# Altium schematic symbol library WE-RJ45.SchLib: 112 symbols
Pins are listed as number, name and electrical type; pins without a type are passive.

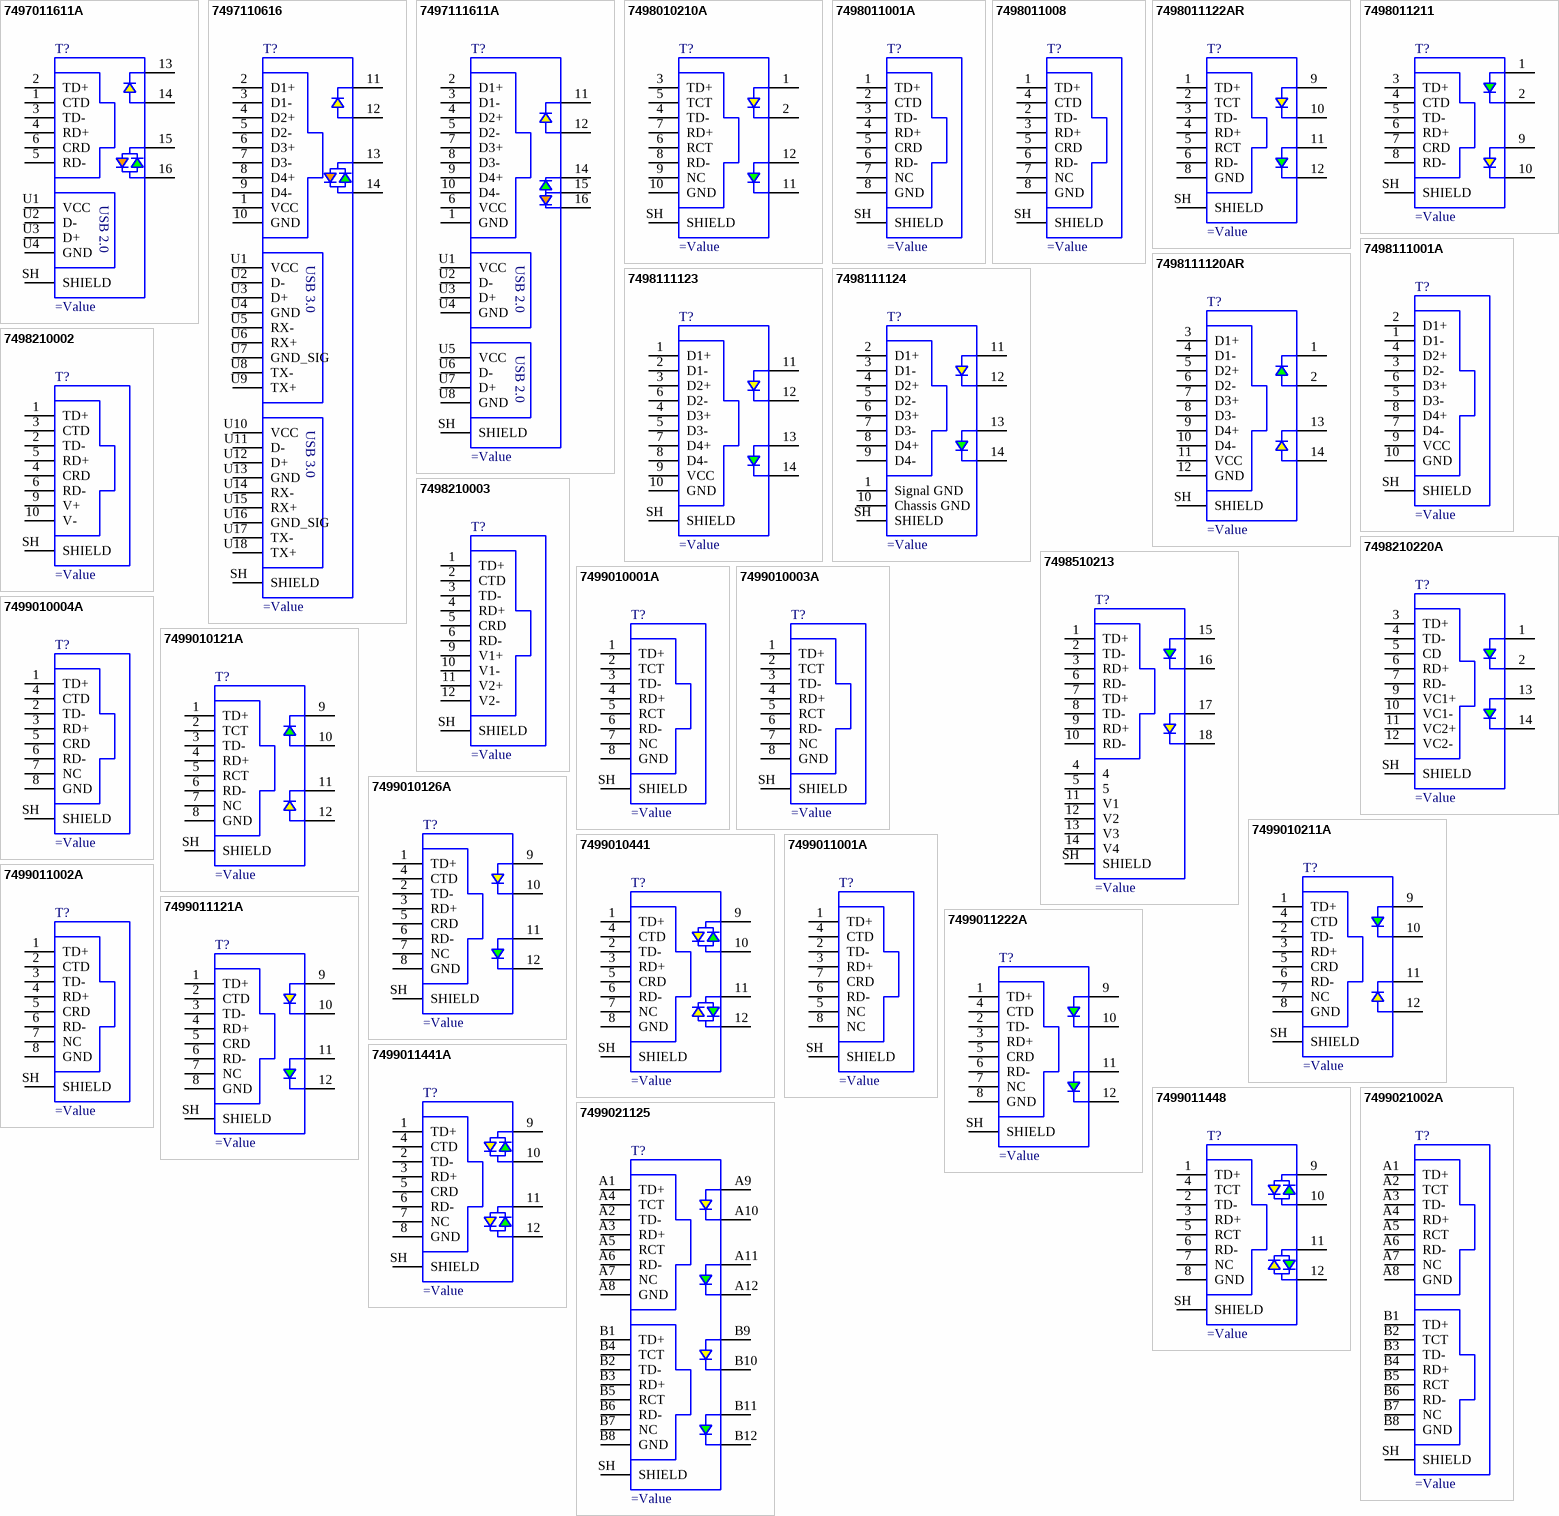
[diagram p0: symbols 7497011611A to 7499021125]

## 7497011611A
designator T?
pins: 1 CTD, 2 TD+, 3 TD-, 4 RD+, 5 RD-, 6 CRD, 13, 14, 15, 16, SH SHIELD, U1 VCC, U2 D-, U3 D+, U4 GND
text: USB 2.0

## 7497110616
designator T?
pins: 1 VCC, 2 D1+, 3 D1-, 4 D2+, 5 D2-, 6 D3+, 7 D3-, 8 D4+, 9 D4-, 10 GND, 11, 12, 13, 14, SH SHIELD, U1 VCC, U2 D-, U3 D+, U4 GND, U5 RX-, U6 RX+, U7 GND_SIG, U8 TX-, U9 TX+, U10 VCC, U11 D-, U12 D+, U13 GND, U14 RX-, U15 RX+, U16 GND_SIG, U17 TX-, U18 TX+
text: USB 3.0

## 7497111611A
designator T?
pins: 1 GND, 2 D1+, 3 D1-, 4 D2+, 5 D2-, 6 VCC, 7 D3+, 8 D3-, 9 D4+, 10 D4-, 11, 12, 14, 15, 16, SH SHIELD, U1 VCC, U2 D-, U3 D+, U4 GND, U5 VCC, U6 D-, U7 D+, U8 GND
text: USB 2.0

## 7498010210A
designator T?
pins: 1, 2, 3 TD+, 4 TD-, 5 TCT, 6 RCT, 7 RD+, 8 RD-, 9 NC, 10 GND, 11, 12, SH SHIELD

## 7498011001A
designator T?
pins: 1 TD+, 2 CTD, 3 TD-, 4 RD+, 5 CRD, 6 RD-, 7 NC, 8 GND, SH SHIELD

## 7498011008
designator T?
pins: 1 TD+, 2 TD-, 3 RD+, 4 CTD, 5 CRD, 6 RD-, 7 NC, 8 GND, SH SHIELD

## 7498011122AR
designator T?
pins: 1 TD+, 2 TCT, 3 TD-, 4 RD+, 5 RCT, 6 RD-, 8 GND, 9, 10, 11, 12, SH SHIELD

## 7498011211
designator T?
pins: 1, 2, 3 TD+, 4 CTD, 5 TD-, 6 RD+, 7 CRD, 8 RD-, 9, 10, SH SHIELD

## 7498111001A
designator T?
pins: 1 D1-, 2 D1+, 3 D2-, 4 D2+, 5 D3-, 6 D3+, 7 D4-, 8 D4+, 9 VCC, 10 GND, SH SHIELD

## 7498111120AR
designator T?
pins: 1, 2, 3 D1+, 4 D1-, 5 D2+, 6 D2-, 7 D3+, 8 D3-, 9 D4+, 10 D4-, 11 VCC, 12 GND, 13, 14, SH SHIELD

## 7498111123
designator T?
pins: 1 D1+, 2 D1-, 3 D2+, 4 D3+, 5 D3-, 6 D2-, 7 D4+, 8 D4-, 9 VCC, 10 GND, 11, 12, 13, 14, SH SHIELD

## 7498111124
designator T?
pins: 1 Signal GND, 2 D1+, 3 D1-, 4 D2+, 5 D2-, 6 D3+, 7 D3-, 8 D4+, 9 D4-, 10 Chassis GND, 11, 12, 13, 14, SH SHIELD

## 7498210002
designator T?
pins: 1 TD+, 2 TD-, 3 CTD, 4 CRD, 5 RD+, 6 RD-, 9 V+, 10 V-, SH SHIELD

## 7498210003
designator T?
pins: 1 TD+, 2 CTD, 3 TD-, 4 RD+, 5 CRD, 6 RD-, 9 V1+, 10 V1-, 11 V2+, 12 V2-, SH SHIELD

## 7498210220A
designator T?
pins: 1, 2, 3 TD+, 4 TD-, 5 CD, 6 RD+, 7 RD-, 9 VC1+, 10 VC1-, 11 VC2+, 12 VC2-, 13, 14, SH SHIELD

## 7498510213
designator T?
pins: 1 TD+, 2 TD-, 3 RD+, 4, 5, 6 RD-, 7 TD+, 8 TD-, 9 RD+, 10 RD-, 11 V1, 12 V2, 13 V3, 14 V4, 15, 16, 17, 18, SH SHIELD

## 7499010001A
designator T?
pins: 1 TD+, 2 TCT, 3 TD-, 4 RD+, 5 RCT, 6 RD-, 7 NC, 8 GND, SH SHIELD

## 7499010003A
designator T?
pins: 1 TD+, 2 TCT, 3 TD-, 4 RD+, 5 RCT, 6 RD-, 7 NC, 8 GND, SH SHIELD

## 7499010004A
designator T?
pins: 1 TD+, 2 TD-, 3 RD+, 4 CTD, 5 CRD, 6 RD-, 7 NC, 8 GND, SH SHIELD

## 7499010121A
designator T?
pins: 1 TD+, 2 TCT, 3 TD-, 4 RD+, 5 RCT, 6 RD-, 7 NC, 8 GND, 9, 10, 11, 12, SH SHIELD

## 7499010126A
designator T?
pins: 1 TD+, 2 TD-, 3 RD+, 4 CTD, 5 CRD, 6 RD-, 7 NC, 8 GND, 9, 10, 11, 12, SH SHIELD

## 7499010211A
designator T?
pins: 1 TD+, 2 TD-, 3 RD+, 4 CTD, 5 CRD, 6 RD-, 7 NC, 8 GND, 9, 10, 11, 12, SH SHIELD

## 7499010441
designator T?
pins: 1 TD+, 2 TD-, 3 RD+, 4 CTD, 5 CRD, 6 RD-, 7 NC, 8 GND, 9, 10, 11, 12, SH SHIELD

## 7499011001A
designator T?
pins: 1 TD+, 2 TD-, 3 RD+, 4 CTD, 5 NC, 6 RD-, 7 CRD, 8 NC, SH SHIELD

## 7499011002A
designator T?
pins: 1 TD+, 2 CTD, 3 TD-, 4 RD+, 5 CRD, 6 RD-, 7 NC, 8 GND, SH SHIELD

## 7499011121A
designator T?
pins: 1 TD+, 2 CTD, 3 TD-, 4 RD+, 5 CRD, 6 RD-, 7 NC, 8 GND, 9, 10, 11, 12, SH SHIELD

## 7499011222A
designator T?
pins: 1 TD+, 2 TD-, 3 RD+, 4 CTD, 5 CRD, 6 RD-, 7 NC, 8 GND, 9, 10, 11, 12, SH SHIELD

## 7499011441A
designator T?
pins: 1 TD+, 2 TD-, 3 RD+, 4 CTD, 5 CRD, 6 RD-, 7 NC, 8 GND, 9, 10, 11, 12, SH SHIELD

## 7499011448
designator T?
pins: 1 TD+, 2 TD-, 3 RD+, 4 TCT, 5 RCT, 6 RD-, 7 NC, 8 GND, 9, 10, 11, 12, SH SHIELD

## 7499021002A
designator T?
pins: A1 TD+, A2 TCT, A3 TD-, A4 RD+, A5 RCT, A6 RD-, A7 NC, A8 GND, B1 TD+, B2 TCT, B3 TD-, B4 RD+, B5 RCT, B6 RD-, B7 NC, B8 GND, SH SHIELD

## 7499021125
designator T?
pins: A1 TD+, A2 TD-, A3 RD+, A4 TCT, A5 RCT, A6 RD-, A7 NC, A8 GND, A9, A10, A11, A12, B1 TD+, B2 TD-, B3 RD+, B4 TCT, B5 RCT, B6 RD-, B7 NC, B8 GND, B9, B10, B11, B12, SH SHIELD

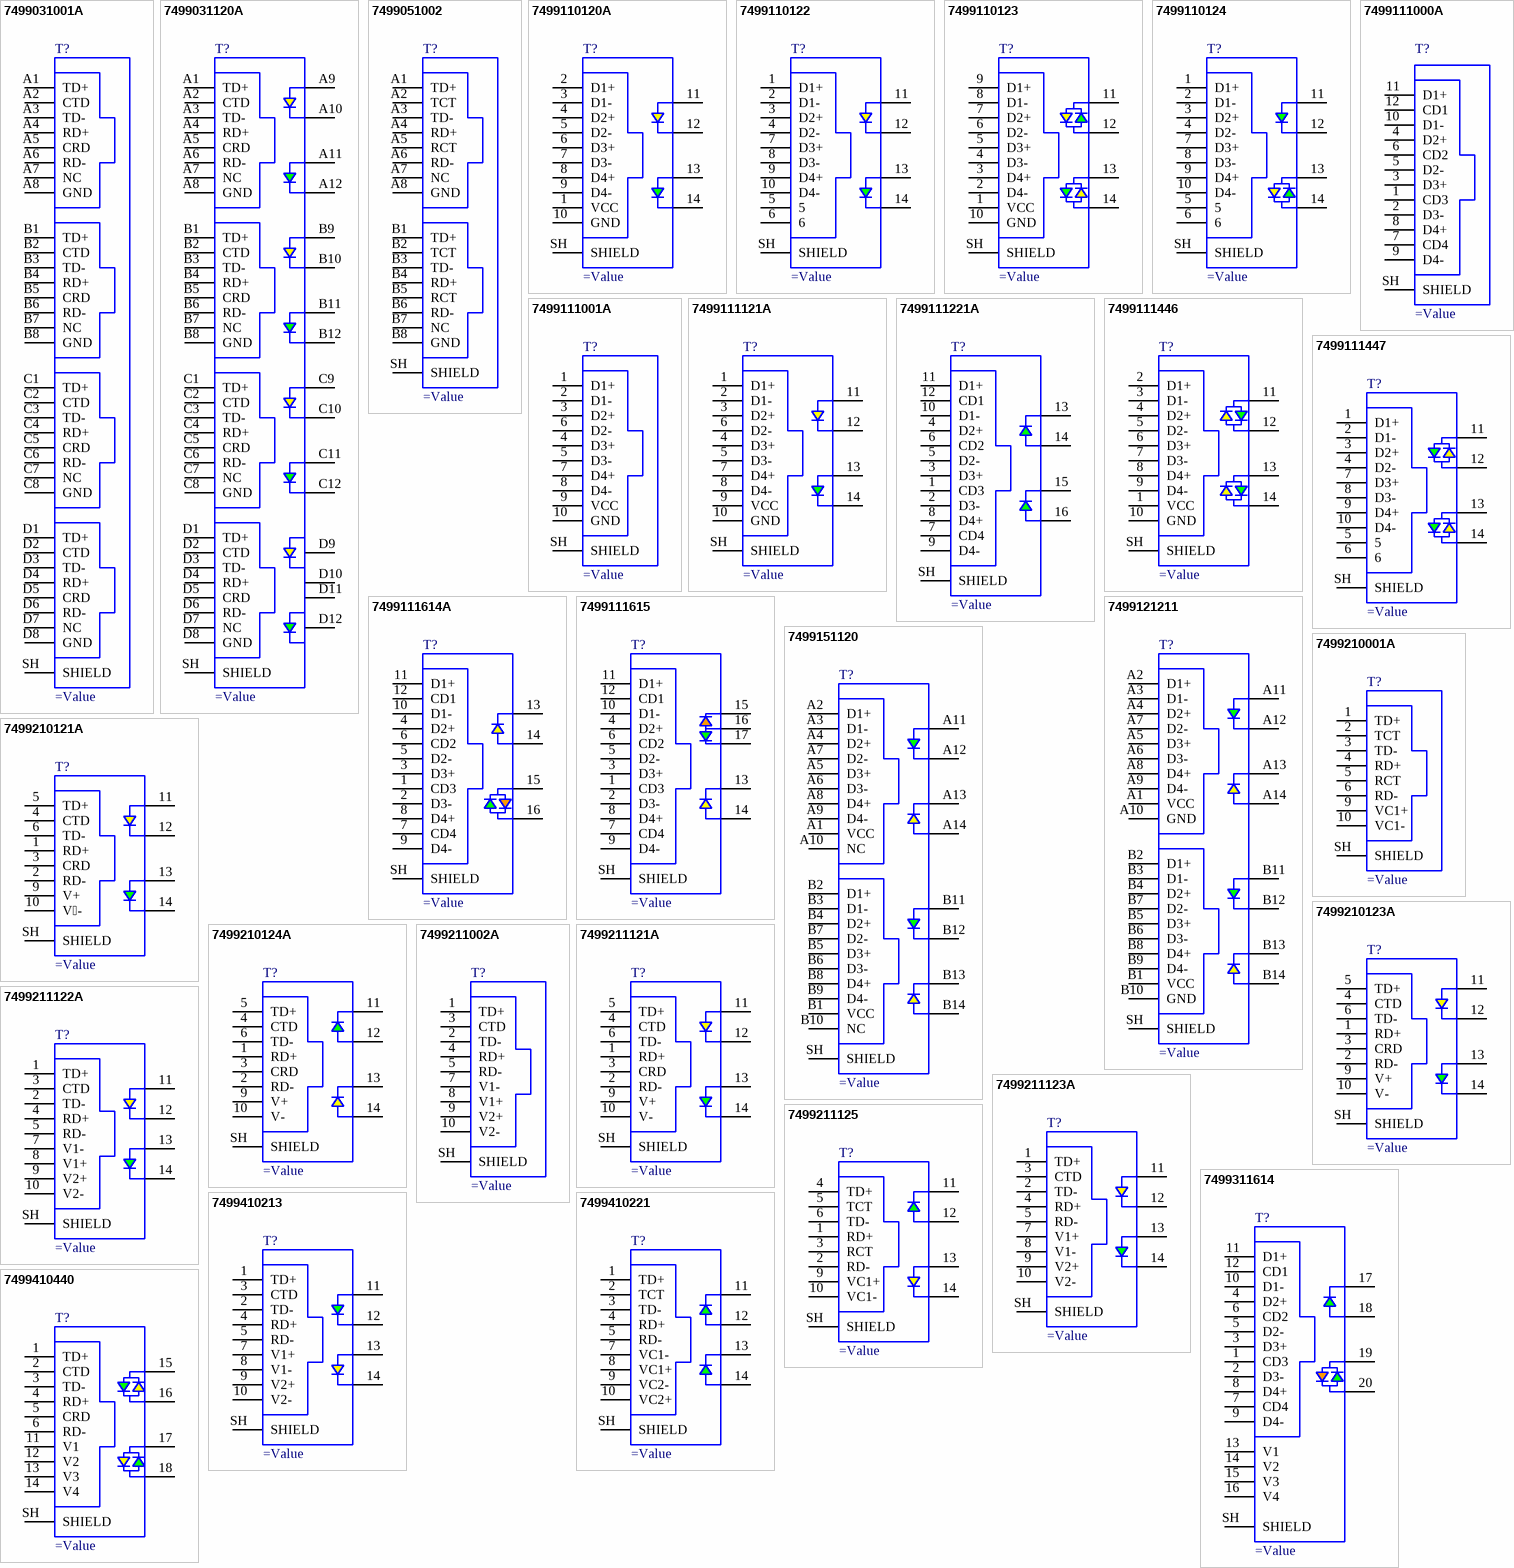
[diagram p1: symbols 7499031001A to 7499410440]

## 7499031001A
designator T?
pins: A1 TD+, A2 CTD, A3 TD-, A4 RD+, A5 CRD, A6 RD-, A7 NC, A8 GND, B1 TD+, B2 CTD, B3 TD-, B4 RD+, B5 CRD, B6 RD-, B7 NC, B8 GND, C1 TD+, C2 CTD, C3 TD-, C4 RD+, C5 CRD, C6 RD-, C7 NC, C8 GND, D1 TD+, D2 CTD, D3 TD-, D4 RD+, D5 CRD, D6 RD-, D7 NC, D8 GND, SH SHIELD

## 7499031120A
designator T?
pins: A1 TD+, A2 CTD, A3 TD-, A4 RD+, A5 CRD, A6 RD-, A7 NC, A8 GND, A9, A10, A11, A12, B1 TD+, B2 CTD, B3 TD-, B4 RD+, B5 CRD, B6 RD-, B7 NC, B8 GND, B9, B10, B11, B12, C1 TD+, C2 CTD, C3 TD-, C4 RD+, C5 CRD, C6 RD-, C7 NC, C8 GND, C9, C10, C11, C12, D1 TD+, D2 CTD, D3 TD-, D4 RD+, D5 CRD, D6 RD-, D7 NC, D8 GND, D9, D10, D11, D12, SH SHIELD

## 7499051002
designator T?
pins: A1 TD+, A2 TCT, A3 TD-, A4 RD+, A5 RCT, A6 RD-, A7 NC, A8 GND, B1 TD+, B2 TCT, B3 TD-, B4 RD+, B5 RCT, B6 RD-, B7 NC, B8 GND, SH SHIELD

## 7499110120A
designator T?
pins: 1 VCC, 2 D1+, 3 D1-, 4 D2+, 5 D2-, 6 D3+, 7 D3-, 8 D4+, 9 D4-, 10 GND, 11, 12, 13, 14, SH SHIELD

## 7499110122
designator T?
pins: 1 D1+, 2 D1-, 3 D2+, 4 D2-, 5, 6, 7 D3+, 8 D3-, 9 D4+, 10 D4-, 11, 12, 13, 14, SH SHIELD

## 7499110123
designator T?
pins: 1 VCC, 2 D4-, 3 D4+, 4 D3-, 5 D3+, 6 D2-, 7 D2+, 8 D1-, 9 D1+, 10 GND, 11, 12, 13, 14, SH SHIELD

## 7499110124
designator T?
pins: 1 D1+, 2 D1-, 3 D2+, 4 D2-, 5, 6, 7 D3+, 8 D3-, 9 D4+, 10 D4-, 11, 12, 13, 14, SH SHIELD

## 7499111000A
designator T?
pins: 1 CD3, 2 D3-, 3 D3+, 4 D2+, 5 D2-, 6 CD2, 7 CD4, 8 D4+, 9 D4-, 10 D1-, 11 D1+, 12 CD1, SH SHIELD

## 7499111001A
designator T?
pins: 1 D1+, 2 D1-, 3 D2+, 4 D3+, 5 D3-, 6 D2-, 7 D4+, 8 D4-, 9 VCC, 10 GND, SH SHIELD

## 7499111121A
designator T?
pins: 1 D1+, 2 D1-, 3 D2+, 4 D3+, 5 D3-, 6 D2-, 7 D4+, 8 D4-, 9 VCC, 10 GND, 11, 12, 13, 14, SH SHIELD

## 7499111221A
designator T?
pins: 1 CD3, 2 D3-, 3 D3+, 4 D2+, 5 D2-, 6 CD2, 7 CD4, 8 D4+, 9 D4-, 10 D1-, 11 D1+, 12 CD1, 13, 14, 15, 16, SH SHIELD

## 7499111446
designator T?
pins: 1 VCC, 2 D1+, 3 D1-, 4 D2+, 5 D2-, 6 D3+, 7 D3-, 8 D4+, 9 D4-, 10 GND, 11, 12, 13, 14, SH SHIELD

## 7499111447
designator T?
pins: 1 D1+, 2 D1-, 3 D2+, 4 D2-, 5, 6, 7 D3+, 8 D3-, 9 D4+, 10 D4-, 11, 12, 13, 14, SH SHIELD

## 7499111614A
designator T?
pins: 1 CD3, 2 D3-, 3 D3+, 4 D2+, 5 D2-, 6 CD2, 7 CD4, 8 D4+, 9 D4-, 10 D1-, 11 D1+, 12 CD1, 13, 14, 15, 16, SH SHIELD

## 7499111615
designator T?
pins: 1 CD3, 2 D3-, 3 D3+, 4 D2+, 5 D2-, 6 CD2, 7 CD4, 8 D4+, 9 D4-, 10 D1-, 11 D1+, 12 CD1, 13, 14, 15, 16, 17, SH SHIELD

## 7499121211
designator T?
pins: A1 VCC, A2 D1+, A3 D1-, A4 D2+, A5 D3+, A6 D3-, A7 D2-, A8 D4+, A9 D4-, A10 GND, A11, A12, A13, A14, B1 VCC, B2 D1+, B3 D1-, B4 D2+, B5 D3+, B6 D3-, B7 D2-, B8 D4+, B9 D4-, B10 GND, B11, B12, B13, B14, SH SHIELD

## 7499151120
designator T?
pins: A1 VCC, A2 D1+, A3 D1-, A4 D2+, A5 D3+, A6 D3-, A7 D2-, A8 D4+, A9 D4-, A10 NC, A11, A12, A13, A14, B1 VCC, B2 D1+, B3 D1-, B4 D2+, B5 D3+, B6 D3-, B7 D2-, B8 D4+, B9 D4-, B10 NC, B11, B12, B13, B14, SH SHIELD

## 7499210001A
designator T?
pins: 1 TD+, 2 TCT, 3 TD-, 4 RD+, 5 RCT, 6 RD-, 9 VC1+, 10 VC1-, SH SHIELD

## 7499210121A
designator T?
pins: 1 RD+, 2 RD-, 3 CRD, 4 CTD, 5 TD+, 6 TD-, 9 V+, 10 V-, 11, 12, 13, 14, SH SHIELD

## 7499210123A
designator T?
pins: 1 RD+, 2 RD-, 3 CRD, 4 CTD, 5 TD+, 6 TD-, 9 V+, 10 V-, 11, 12, 13, 14, SH SHIELD

## 7499210124A
designator T?
pins: 1 RD+, 2 RD-, 3 CRD, 4 CTD, 5 TD+, 6 TD-, 9 V+, 10 V-, 11, 12, 13, 14, SH SHIELD

## 7499211002A
designator T?
pins: 1 TD+, 2 TD-, 3 CTD, 4 RD+, 5 RD-, 7 V1-, 8 V1+, 9 V2+, 10 V2-, SH SHIELD

## 7499211121A
designator T?
pins: 1 RD+, 2 RD-, 3 CRD, 4 CTD, 5 TD+, 6 TD-, 9 V+, 10 V-, 11, 12, 13, 14, SH SHIELD

## 7499211122A
designator T?
pins: 1 TD+, 2 TD-, 3 CTD, 4 RD+, 5 RD-, 7 V1-, 8 V1+, 9 V2+, 10 V2-, 11, 12, 13, 14, SH SHIELD

## 7499211123A
designator T?
pins: 1 TD+, 2 TD-, 3 CTD, 4 RD+, 5 RD-, 7 V1+, 8 V1-, 9 V2+, 10 V2-, 11, 12, 13, 14, SH SHIELD

## 7499211125
designator T?
pins: 1 RD+, 2 RD-, 3 RCT, 4 TD+, 5 TCT, 6 TD-, 9 VC1+, 10 VC1-, 11, 12, 13, 14, SH SHIELD

## 7499311614
designator T?
pins: 1 CD3, 2 D3-, 3 D3+, 4 D2+, 5 D2-, 6 CD2, 7 CD4, 8 D4+, 9 D4-, 10 D1-, 11 D1+, 12 CD1, 13 V1, 14 V2, 15 V3, 16 V4, 17, 18, 19, 20, SH SHIELD

## 7499410213
designator T?
pins: 1 TD+, 2 TD-, 3 CTD, 4 RD+, 5 RD-, 7 V1+, 8 V1-, 9 V2+, 10 V2-, 11, 12, 13, 14, SH SHIELD

## 7499410221
designator T?
pins: 1 TD+, 2 TCT, 3 TD-, 4 RD+, 5 RD-, 7 VC1-, 8 VC1+, 9 VC2-, 10 VC2+, 11, 12, 13, 14, SH SHIELD

## 7499410440
designator T?
pins: 1 TD+, 2 CTD, 3 TD-, 4 RD+, 5 CRD, 6 RD-, 11 V1, 12 V2, 13 V3, 14 V4, 15, 16, 17, 18, SH SHIELD

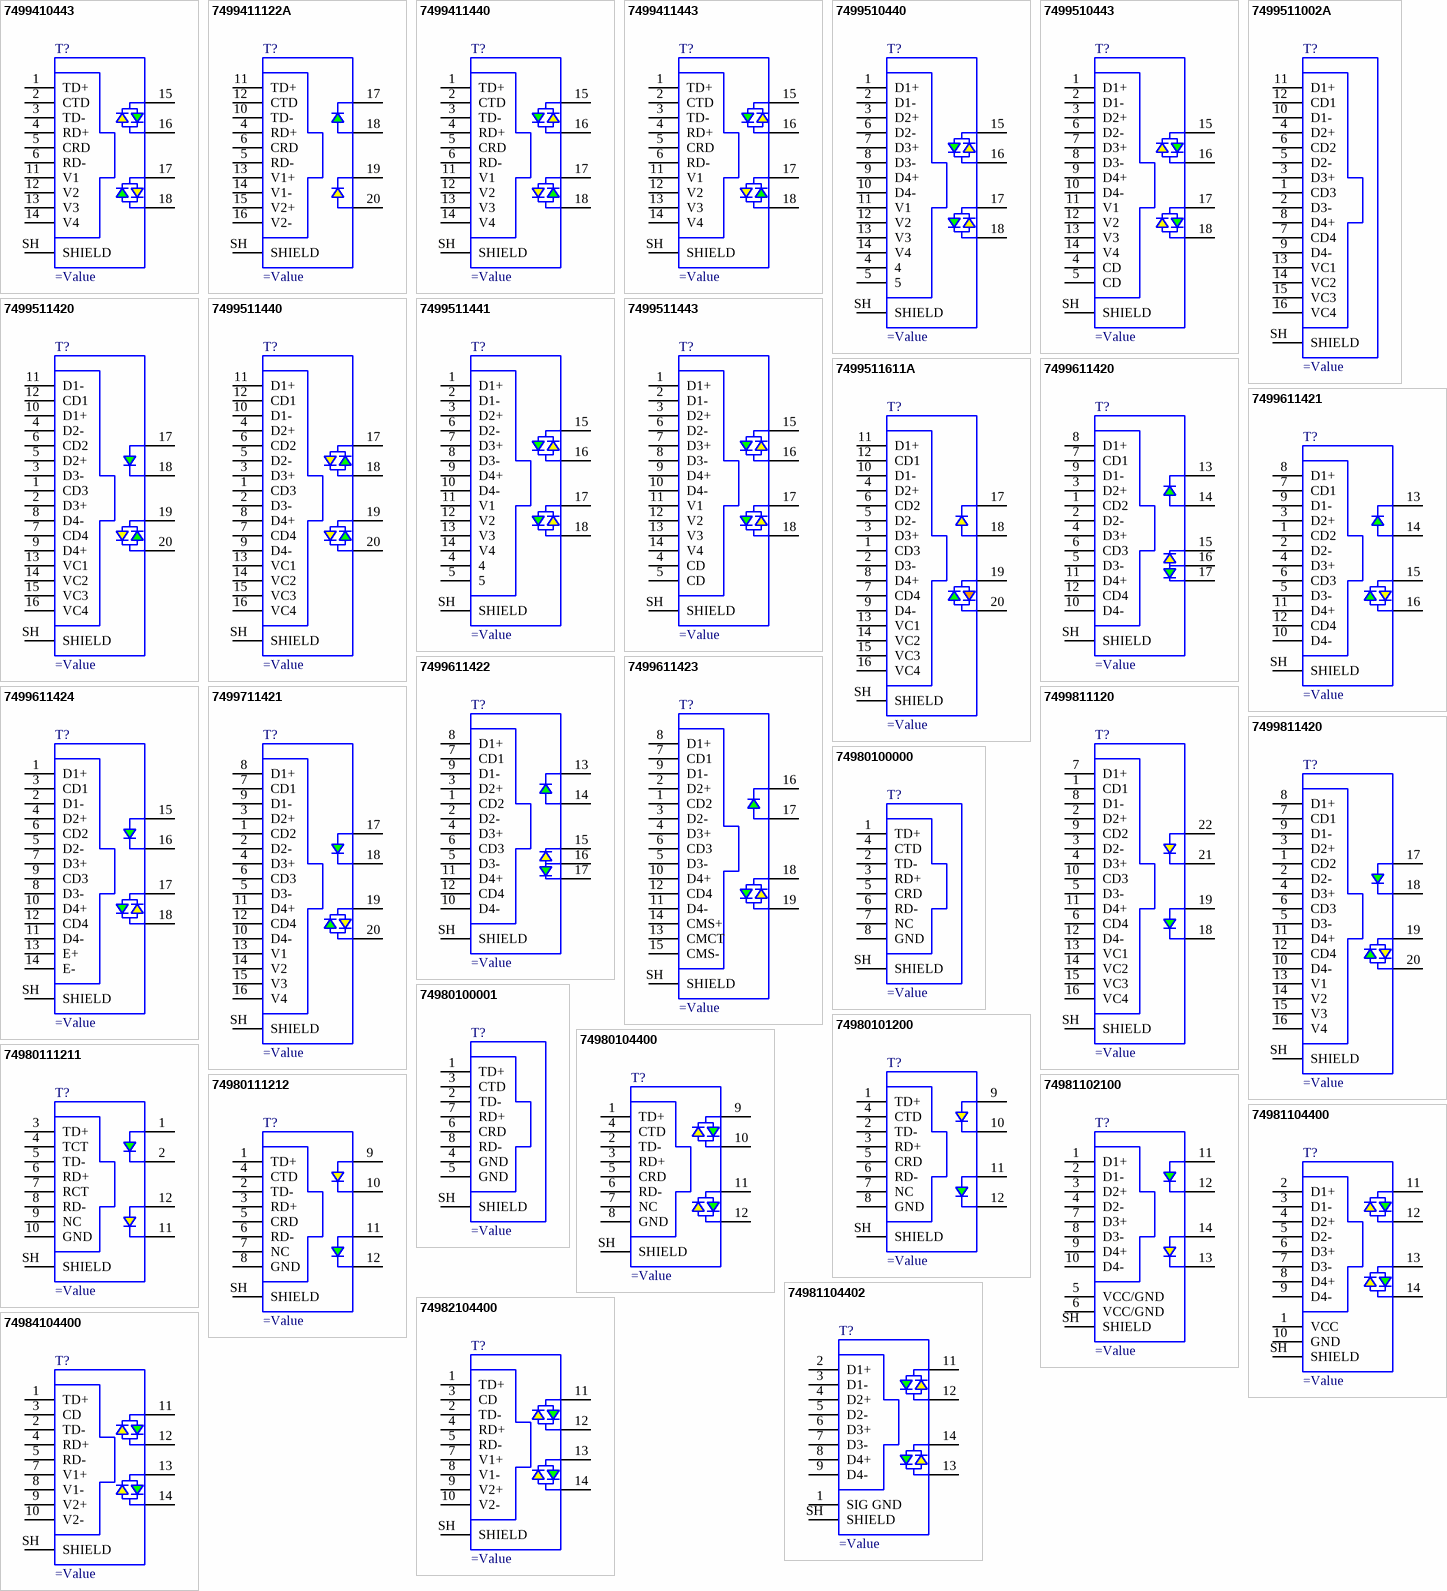
[diagram p2: symbols 7499410443 to 74984104400]

## 7499410443
designator T?
pins: 1 TD+, 2 CTD, 3 TD-, 4 RD+, 5 CRD, 6 RD-, 11 V1, 12 V2, 13 V3, 14 V4, 15, 16, 17, 18, SH SHIELD

## 7499411122A
designator T?
pins: 4 RD+, 5 RD-, 6 CRD, 10 TD-, 11 TD+, 12 CTD, 13 V1+, 14 V1-, 15 V2+, 16 V2-, 17, 18, 19, 20, SH SHIELD

## 7499411440
designator T?
pins: 1 TD+, 2 CTD, 3 TD-, 4 RD+, 5 CRD, 6 RD-, 11 V1, 12 V2, 13 V3, 14 V4, 15, 16, 17, 18, SH SHIELD

## 7499411443
designator T?
pins: 1 TD+, 2 CTD, 3 TD-, 4 RD+, 5 CRD, 6 RD-, 11 V1, 12 V2, 13 V3, 14 V4, 15, 16, 17, 18, SH SHIELD

## 7499510440
designator T?
pins: 1 D1+, 2 D1-, 3 D2+, 4, 5, 6 D2-, 7 D3+, 8 D3-, 9 D4+, 10 D4-, 11 V1, 12 V2, 13 V3, 14 V4, 15, 16, 17, 18, SH SHIELD

## 7499510443
designator T?
pins: 1 D1+, 2 D1-, 3 D2+, 4 CD, 5 CD, 6 D2-, 7 D3+, 8 D3-, 9 D4+, 10 D4-, 11 V1, 12 V2, 13 V3, 14 V4, 15, 16, 17, 18, SH SHIELD

## 7499511002A
designator T?
pins: 1 CD3, 2 D3-, 3 D3+, 4 D2+, 5 D2-, 6 CD2, 7 CD4, 8 D4+, 9 D4-, 10 D1-, 11 D1+, 12 CD1, 13 VC1, 14 VC2, 15 VC3, 16 VC4, SH SHIELD

## 7499511420
designator T?
pins: 1 CD3, 2 D3+, 3 D3-, 4 D2-, 5 D2+, 6 CD2, 7 CD4, 8 D4-, 9 D4+, 10 D1+, 11 D1-, 12 CD1, 13 VC1, 14 VC2, 15 VC3, 16 VC4, 17, 18, 19, 20, SH SHIELD

## 7499511440
designator T?
pins: 1 CD3, 2 D3-, 3 D3+, 4 D2+, 5 D2-, 6 CD2, 7 CD4, 8 D4+, 9 D4-, 10 D1-, 11 D1+, 12 CD1, 13 VC1, 14 VC2, 15 VC3, 16 VC4, 17, 18, 19, 20, SH SHIELD

## 7499511441
designator T?
pins: 1 D1+, 2 D1-, 3 D2+, 4, 5, 6 D2-, 7 D3+, 8 D3-, 9 D4+, 10 D4-, 11 V1, 12 V2, 13 V3, 14 V4, 15, 16, 17, 18, SH SHIELD

## 7499511443
designator T?
pins: 1 D1+, 2 D1-, 3 D2+, 4 CD, 5 CD, 6 D2-, 7 D3+, 8 D3-, 9 D4+, 10 D4-, 11 V1, 12 V2, 13 V3, 14 V4, 15, 16, 17, 18, SH SHIELD

## 7499511611A
designator T?
pins: 1 CD3, 2 D3-, 3 D3+, 4 D2+, 5 D2-, 6 CD2, 7 CD4, 8 D4+, 9 D4-, 10 D1-, 11 D1+, 12 CD1, 13 VC1, 14 VC2, 15 VC3, 16 VC4, 17, 18, 19, 20, SH SHIELD

## 7499611420
designator T?
pins: 1 CD2, 2 D2-, 3 D2+, 4 D3+, 5 D3-, 6 CD3, 7 CD1, 8 D1+, 9 D1-, 10 D4-, 11 D4+, 12 CD4, 13, 14, 15, 16, 17, SH SHIELD

## 7499611421
designator T?
pins: 1 CD2, 2 D2-, 3 D2+, 4 D3+, 5 D3-, 6 CD3, 7 CD1, 8 D1+, 9 D1-, 10 D4-, 11 D4+, 12 CD4, 13, 14, 15, 16, SH SHIELD

## 7499611422
designator T?
pins: 1 CD2, 2 D2-, 3 D2+, 4 D3+, 5 D3-, 6 CD3, 7 CD1, 8 D1+, 9 D1-, 10 D4-, 11 D4+, 12 CD4, 13, 14, 15, 16, 17, SH SHIELD

## 7499611423
designator T?
pins: 1 CD2, 2 D2+, 3 D2-, 4 D3+, 5 D3-, 6 CD3, 7 CD1, 8 D1+, 9 D1-, 10 D4+, 11 D4-, 12 CD4, 13 CMCT, 14 CMS+, 15 CMS-, 16, 17, 18, 19, SH SHIELD

## 7499611424
designator T?
pins: 1 D1+, 2 D1-, 3 CD1, 4 D2+, 5 D2-, 6 CD2, 7 D3+, 8 D3-, 9 CD3, 10 D4+, 11 D4-, 12 CD4, 13 E+, 14 E-, 15, 16, 17, 18, SH SHIELD

## 7499711421
designator T?
pins: 1 CD2, 2 D2-, 3 D2+, 4 D3+, 5 D3-, 6 CD3, 7 CD1, 8 D1+, 9 D1-, 10 D4-, 11 D4+, 12 CD4, 13 V1, 14 V2, 15 V3, 16 V4, 17, 18, 19, 20, SH SHIELD

## 7499811120
designator T?
pins: 1 CD1, 2 D2+, 3 D2-, 4 D3+, 5 D3-, 6 CD4, 7 D1+, 8 D1-, 9 CD2, 10 CD3, 11 D4+, 12 D4-, 13 VC1, 14 VC2, 15 VC3, 16 VC4, 18, 19, 21, 22, SH SHIELD

## 7499811420
designator T?
pins: 1 CD2, 2 D2-, 3 D2+, 4 D3+, 5 D3-, 6 CD3, 7 CD1, 8 D1+, 9 D1-, 10 D4-, 11 D4+, 12 CD4, 13 V1, 14 V2, 15 V3, 16 V4, 17, 18, 19, 20, SH SHIELD

## 74980100000
designator T?
pins: 1 TD+, 2 TD-, 3 RD+, 4 CTD, 5 CRD, 6 RD-, 7 NC, 8 GND, SH SHIELD

## 74980100001
designator T?
pins: 1 TD+, 2 TD-, 3 CTD, 4 GND, 5 GND, 6 CRD, 7 RD+, 8 RD-, SH SHIELD

## 74980101200
designator T?
pins: 1 TD+, 2 TD-, 3 RD+, 4 CTD, 5 CRD, 6 RD-, 7 NC, 8 GND, 9, 10, 11, 12, SH SHIELD

## 74980104400
designator T?
pins: 1 TD+, 2 TD-, 3 RD+, 4 CTD, 5 CRD, 6 RD-, 7 NC, 8 GND, 9, 10, 11, 12, SH SHIELD

## 74980111211
designator T?
pins: 1, 2, 3 TD+, 4 TCT, 5 TD-, 6 RD+, 7 RCT, 8 RD-, 9 NC, 10 GND, 11, 12, SH SHIELD

## 74980111212
designator T?
pins: 1 TD+, 2 TD-, 3 RD+, 4 CTD, 5 CRD, 6 RD-, 7 NC, 8 GND, 9, 10, 11, 12, SH SHIELD

## 74981102100
designator T?
pins: 1 D1+, 2 D1-, 3 D2+, 4 D2-, 5 VCC/GND, 6 VCC/GND, 7 D3+, 8 D3-, 9 D4+, 10 D4-, 11, 12, 13, 14, SH SHIELD

## 74981104400
designator T?
pins: 1 VCC, 2 D1+, 3 D1-, 4 D2+, 5 D2-, 6 D3+, 7 D3-, 8 D4+, 9 D4-, 10 GND, 11, 12, 13, 14, SH SHIELD

## 74981104402
designator T?
pins: 1 SIG GND, 2 D1+, 3 D1-, 4 D2+, 5 D2-, 6 D3+, 7 D3-, 8 D4+, 9 D4-, 11, 12, 13, 14, SH SHIELD

## 74982104400
designator T?
pins: 1 TD+, 2 TD-, 3 CD, 4 RD+, 5 RD-, 7 V1+, 8 V1-, 9 V2+, 10 V2-, 11, 12, 13, 14, SH SHIELD

## 74984104400
designator T?
pins: 1 TD+, 2 TD-, 3 CD, 4 RD+, 5 RD-, 7 V1+ , 8 V1-, 9 V2+, 10 V2-, 11, 12, 13, 14, SH SHIELD

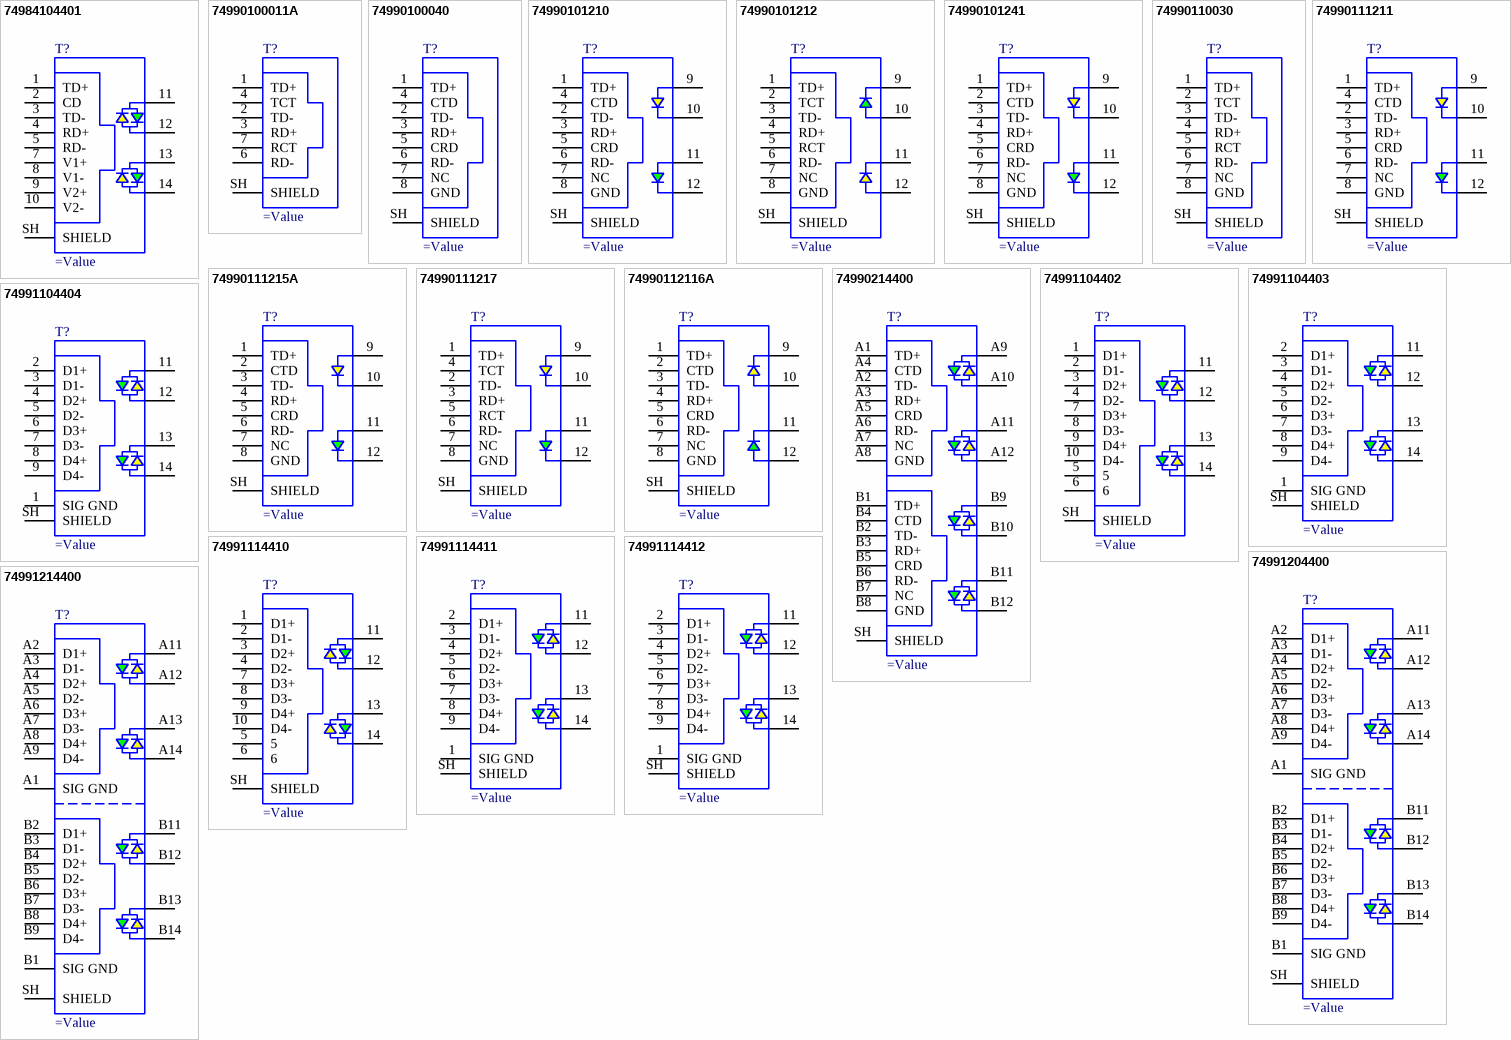
[diagram p3: symbols 74984104401 to 74991214400]

## 74984104401
designator T?
pins: 1 TD+, 2 CD, 3 TD-, 4 RD+, 5 RD-, 7 V1+, 8 V1-, 9 V2+ (power), 10 V2- (power), 11, 12, 13, 14, SH SHIELD

## 74990100011A
designator T?
pins: 1 TD+, 2 TD-, 3 RD+, 4 TCT, 6 RD-, 7 RCT, SH SHIELD

## 74990100040
designator T?
pins: 1 TD+, 2 TD-, 3 RD+, 4 CTD, 5 CRD, 6 RD-, 7 NC, 8 GND, SH SHIELD

## 74990101210
designator T?
pins: 1 TD+, 2 TD-, 3 RD+, 4 CTD, 5 CRD, 6 RD-, 7 NC, 8 GND, 9, 10, 11, 12, SH SHIELD

## 74990101212
designator T?
pins: 1 TD+, 2 TCT, 3 TD-, 4 RD+, 5 RCT, 6 RD-, 7 NC, 8 GND, 9, 10, 11, 12, SH SHIELD

## 74990101241
designator T?
pins: 1 TD+, 2 CTD, 3 TD-, 4 RD+, 5 CRD, 6 RD-, 7 NC, 8 GND, 9, 10, 11, 12, SH SHIELD

## 74990110030
designator T?
pins: 1 TD+, 2 TCT, 3 TD-, 4 RD+, 5 RCT, 6 RD-, 7 NC, 8 GND, SH SHIELD

## 74990111211
designator T?
pins: 1 TD+, 2 TD-, 3 RD+, 4 CTD, 5 CRD, 6 RD-, 7 NC, 8 GND, 9, 10, 11, 12, SH SHIELD

## 74990111215A
designator T?
pins: 1 TD+, 2 CTD, 3 TD-, 4 RD+, 5 CRD, 6 RD-, 7 NC, 8 GND, 9, 10, 11, 12, SH SHIELD

## 74990111217
designator T?
pins: 1 TD+, 2 TD-, 3 RD+, 4 TCT, 5 RCT, 6 RD-, 7 NC, 8 GND, 9, 10, 11, 12, SH SHIELD

## 74990112116A
designator T?
pins: 1 TD+, 2 CTD, 3 TD-, 4 RD+, 5 CRD, 6 RD-, 7 NC, 8 GND, 9, 10, 11, 12, SH SHIELD

## 74990214400
designator T?
pins: A1 TD+, A2 TD-, A3 RD+, A4 CTD, A5 CRD, A6 RD-, A7 NC, A8 GND, A9, A10, A11, A12, B1 TD+, B2 TD-, B3 RD+, B4 CTD, B5 CRD, B6 RD-, B7 NC, B8 GND, B9, B10, B11, B12, SH SHIELD

## 74991104402
designator T?
pins: 1 D1+, 2 D1-, 3 D2+, 4 D2-, 5, 6, 7 D3+, 8 D3-, 9 D4+, 10 D4-, 11, 12, 13, 14, SH SHIELD

## 74991104403
designator T?
pins: 1 SIG GND, 2 D1+, 3 D1-, 4 D2+, 5 D2-, 6 D3+, 7 D3-, 8 D4+, 9 D4-, 11, 12, 13, 14, SH SHIELD

## 74991104404
designator T?
pins: 1 SIG GND, 2 D1+, 3 D1-, 4 D2+, 5 D2-, 6 D3+, 7 D3-, 8 D4+, 9 D4-, 11, 12, 13, 14, SH SHIELD

## 74991114410
designator T?
pins: 1 D1+, 2 D1-, 3 D2+, 4 D2-, 5, 6, 7 D3+, 8 D3-, 9 D4+, 10 D4-, 11, 12, 13, 14, SH SHIELD

## 74991114411
designator T?
pins: 1 SIG GND, 2 D1+, 3 D1-, 4 D2+, 5 D2-, 6 D3+, 7 D3-, 8 D4+, 9 D4-, 11, 12, 13, 14, SH SHIELD

## 74991114412
designator T?
pins: 1 SIG GND, 2 D1+, 3 D1-, 4 D2+, 5 D2-, 6 D3+, 7 D3-, 8 D4+, 9 D4-, 11, 12, 13, 14, SH SHIELD

## 74991204400
designator T?
pins: A1 SIG GND, A2 D1+, A3 D1-, A4 D2+, A5 D2-, A6 D3+, A7 D3-, A8 D4+, A9 D4-, A11, A12, A13, A14, B1 SIG GND, B2 D1+, B3 D1-, B4 D2+, B5 D2-, B6 D3+, B7 D3-, B8 D4+, B9 D4-, B11, B12, B13, B14, SH SHIELD

## 74991214400
designator T?
pins: A1 SIG GND, A2 D1+, A3 D1-, A4 D2+, A5 D2-, A6 D3+, A7 D3-, A8 D4+, A9 D4-, A11, A12, A13, A14, B1 SIG GND, B2 D1+, B3 D1-, B4 D2+, B5 D2-, B6 D3+, B7 D3-, B8 D4+, B9 D4-, B11, B12, B13, B14, SH SHIELD